# Altium schematic symbol library 830107871909.SchLib: 1 symbol
Pins are listed as number, name and electrical type; pins without a type are passive.

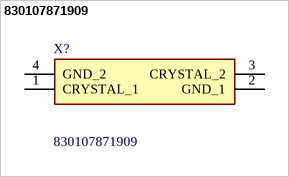
[diagram p0: symbol 830107871909]

## 830107871909
designator X?
Crystals WE-XTAL 25.0MHz 10ppm 2.5 x 2.0mm; Manufacturer_Name: Wurth Elektronik; Geometry.Height: 0.6mm; Mouser Part Number: 710-830107871909; Mouser Price/Stock: https://www.mouser.co.uk/ProductDetail/Wurth-Elektronik/830107871909?qs=hWgE7mdIu5SqecU%2FcqYdCA%3D%3D; Manufacturer_Part_Number: 830107871909; Datasheet Link: https://www.we-online.com/catalog/datasheet/830107871909.pdf
footprint 830107871909
pins: 1 CRYSTAL_1, 2 GND_1, 3 CRYSTAL_2, 4 GND_2